# Altium schematic symbol library SN65HVD178X.Schlib: 1 symbol
Pins are listed as number, name and electrical type; pins without a type are passive.

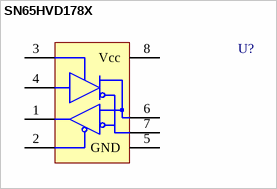
[diagram p0: symbol SN65HVD178X]

## SN65HVD178X
designator U?
pins: 1 R, 2 ~{RE}, 3 DE (power), 4 D (power), 5 GND, 6 A, 7 B, 8 Vcc (power)
1 alternate drawing of the same symbol